# EAGLE library part THING_PLUS (library AirControl)
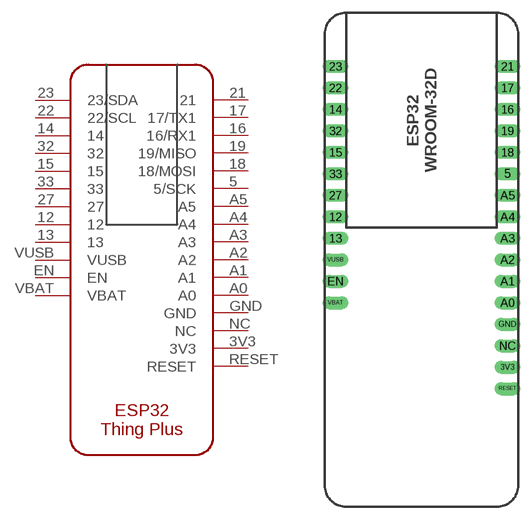
[diagram p0: symbol with the pads of THING_PLUS; footprint THING_PLUS]

Designator prefix -

## THING_PLUSTHING_PLUS  [THING_PLUS]
3V3  3V3
5  5/SCK
12  12
13  13
14  14
15  15
16  16/RX1
17  17/TX1
18  18/MOSI
19  19/MISO
21  21
22  22/SCL
23  23/SDA
27  27
32  32
33  33
A0  A0
A1  A1
A2  A2
A3  A3
A4  A4
A5  A5
EN  EN
GND  GND
NC  NC
RESET  RESET
VBAT  VBAT
VUSB  VUSB

## Footprint THING_PLUS (pad centres in mm)
drill 1 long: 3V3 21.59,16.51; 5 21.59,39.37; 12 1.27,34.29; 13 1.27,31.75; 14 1.27,46.99; 15 1.27,41.91; 16 21.59,46.99; 17 21.59,49.53; 18 21.59,41.91; 19 21.59,44.45; 21 21.59,52.07; 22 1.27,49.53; 23 1.27,52.07; 27 1.27,36.83; 32 1.27,44.45; 33 1.27,39.37; A0 21.59,24.13; A1 21.59,26.67; A2 21.59,29.21; A3 21.59,31.75; A4 21.59,34.29; A5 21.59,36.83; EN 1.27,26.67; GND 21.59,21.59; NC 21.59,19.05; RESET 21.59,13.97; VBAT 1.27,24.13; VUSB 1.27,29.21